# Altium schematic symbol library jlcpcb_2025_04_ferrites_extended_1206.schlib: 308 symbols (part 6 of 6)
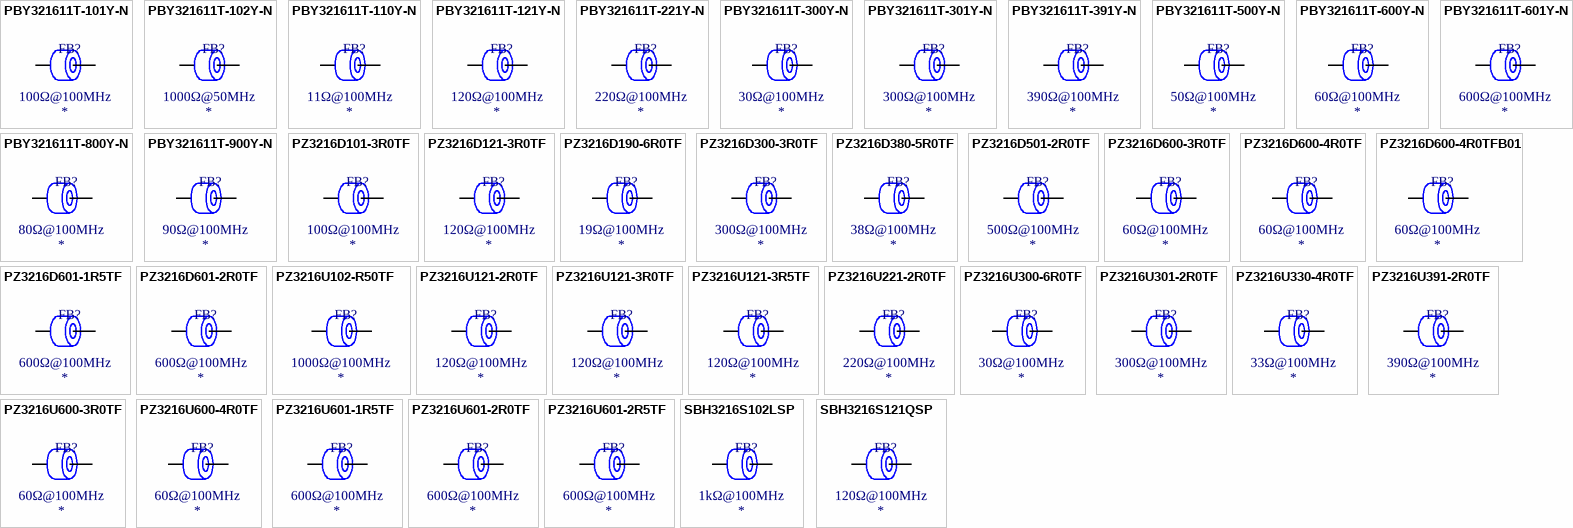
[diagram p12: symbols PBY321611T-101Y-N to SBH3216S121QSP]

## SBH3216S121QSP
designator FB?  Impedance @ Frequency: 120Ω@100MHz
Ferrite, 120Ω@100MHz, ±25%, 30mΩ, 3A, SMD 1206; Manufacturer: Sunltech Tech; Manufacturer Part Number: SBH3216S121QSP; Package Size: 1206; JLCPCB Basic Part: No; JLCPCB Part Number: C908350; Supplier 1: LCSC; Category: Ferrite Beads; Supplier Part Number 1: C908350; Tolerance: ±25%; Rated Current: 3A; DC Resistance: 30mΩ; RoHS: Yes; ComponentLink1Description: Datasheet; ComponentLink1URL: https://wmsc.lcsc.com/wmsc/upload/file/pdf/v2/lcsc/2010301210_Sunltech-Tech-SBH3216S121QSP_C908350.pdf; ComponentLink2Description: JLCPCB Part URL; ComponentLink2URL: https://jlcpcb.com/partdetail/C908350; ComponentLink3Description: LCSC Part URL; ComponentLink3URL: https://lcsc.com/product-detail/Ferrite-Beads_Sunltech-Tech-Sunltech-Tech-SBH3216S121QSP_C908350.html
footprint FB-1206 (1206 (3216M) Ferrite)
pins: 1, 2

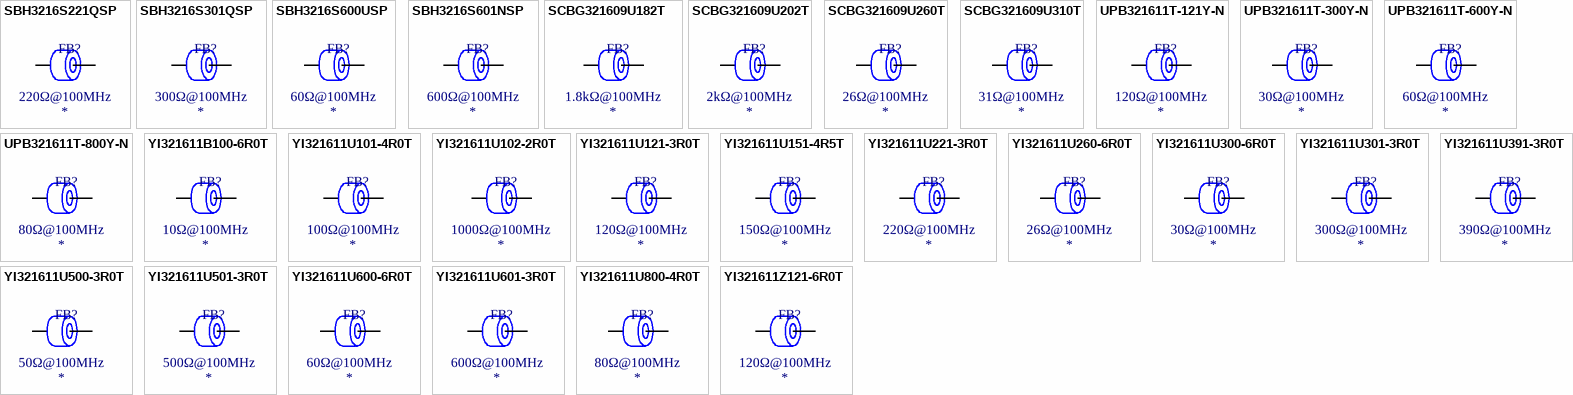
[diagram p7: symbols SBH3216S221QSP to YI321611Z121-6R0T]

## SBH3216S221QSP
designator FB?  Impedance @ Frequency: 220Ω@100MHz
Ferrite, 220Ω@100MHz, ±25%, 40mΩ, 3A, SMD 1206; Manufacturer: Sunltech Tech; Manufacturer Part Number: SBH3216S221QSP; Package Size: 1206; JLCPCB Basic Part: No; JLCPCB Part Number: C908351; Supplier 1: LCSC; Category: Ferrite Beads; Supplier Part Number 1: C908351; Tolerance: ±25%; Rated Current: 3A; DC Resistance: 40mΩ; RoHS: Yes; ComponentLink1Description: Datasheet; ComponentLink1URL: https://wmsc.lcsc.com/wmsc/upload/file/pdf/v2/lcsc/2010301210_Sunltech-Tech-SBH3216S221QSP_C908351.pdf; ComponentLink2Description: JLCPCB Part URL; ComponentLink2URL: https://jlcpcb.com/partdetail/C908351; ComponentLink3Description: LCSC Part URL; ComponentLink3URL: https://lcsc.com/product-detail/Ferrite-Beads_Sunltech-Tech-Sunltech-Tech-SBH3216S221QSP_C908351.html
footprint FB-1206 (1206 (3216M) Ferrite)
pins: 1, 2

## SBH3216S301QSP
designator FB?  Impedance @ Frequency: 300Ω@100MHz
Ferrite, 300Ω@100MHz, ±25%, 40mΩ, 3A, SMD 1206; Manufacturer: Sunltech Tech; Manufacturer Part Number: SBH3216S301QSP; Package Size: 1206; JLCPCB Basic Part: No; JLCPCB Part Number: C908352; Supplier 1: LCSC; Category: Ferrite Beads; Supplier Part Number 1: C908352; Tolerance: ±25%; Rated Current: 3A; DC Resistance: 40mΩ; RoHS: Yes; ComponentLink1Description: Datasheet; ComponentLink1URL: https://wmsc.lcsc.com/wmsc/upload/file/pdf/v2/lcsc/2010301210_Sunltech-Tech-SBH3216S301QSP_C908352.pdf; ComponentLink2Description: JLCPCB Part URL; ComponentLink2URL: https://jlcpcb.com/partdetail/C908352; ComponentLink3Description: LCSC Part URL; ComponentLink3URL: https://lcsc.com/product-detail/Ferrite-Beads_Sunltech-Tech-Sunltech-Tech-SBH3216S301QSP_C908352.html
footprint FB-1206 (1206 (3216M) Ferrite)
pins: 1, 2

## SBH3216S600USP
designator FB?  Impedance @ Frequency: 60Ω@100MHz
Ferrite, 60Ω@100MHz, ±25%, 15mΩ, 5A, SMD 1206; Manufacturer: Sunltech Tech; Manufacturer Part Number: SBH3216S600USP; Package Size: 1206; JLCPCB Basic Part: No; JLCPCB Part Number: C908349; Supplier 1: LCSC; Category: Ferrite Beads; Supplier Part Number 1: C908349; Tolerance: ±25%; Rated Current: 5A; DC Resistance: 15mΩ; RoHS: Yes; ComponentLink1Description: Datasheet; ComponentLink1URL: https://wmsc.lcsc.com/wmsc/upload/file/pdf/v2/lcsc/2011271206_Sunltech-Tech-SBH3216S600USP_C908349.pdf; ComponentLink2Description: JLCPCB Part URL; ComponentLink2URL: https://jlcpcb.com/partdetail/C908349; ComponentLink3Description: LCSC Part URL; ComponentLink3URL: https://lcsc.com/product-detail/Ferrite-Beads_Sunltech-Tech-Sunltech-Tech-SBH3216S600USP_C908349.html
footprint FB-1206 (1206 (3216M) Ferrite)
pins: 1, 2

## SBH3216S601NSP
designator FB?  Impedance @ Frequency: 600Ω@100MHz
Ferrite, 600Ω@100MHz, ±25%, 100mΩ, 2A, SMD 1206; Manufacturer: Sunltech Tech; Manufacturer Part Number: SBH3216S601NSP; Package Size: 1206; JLCPCB Basic Part: No; JLCPCB Part Number: C908353; Supplier 1: LCSC; Category: Ferrite Beads; Supplier Part Number 1: C908353; Tolerance: ±25%; Rated Current: 2A; DC Resistance: 100mΩ; RoHS: Yes; ComponentLink1Description: Datasheet; ComponentLink1URL: https://wmsc.lcsc.com/wmsc/upload/file/pdf/v2/lcsc/2010301210_Sunltech-Tech-SBH3216S601NSP_C908353.pdf; ComponentLink2Description: JLCPCB Part URL; ComponentLink2URL: https://jlcpcb.com/partdetail/C908353; ComponentLink3Description: LCSC Part URL; ComponentLink3URL: https://lcsc.com/product-detail/Ferrite-Beads_Sunltech-Tech-Sunltech-Tech-SBH3216S601NSP_C908353.html
footprint FB-1206 (1206 (3216M) Ferrite)
pins: 1, 2

## SCBG321609U182T
designator FB?  Impedance @ Frequency: 1.8kΩ@100MHz
Ferrite, 1.8kΩ@100MHz, ±25%, SMD 1206; Manufacturer: Yanchuang; Manufacturer Part Number: SCBG321609U182T; Package Size: 1206; JLCPCB Basic Part: No; JLCPCB Part Number: C482682; Supplier 1: LCSC; Category: Ferrite Beads; Supplier Part Number 1: C482682; Tolerance: ±25%; RoHS: Yes; ComponentLink1Description: Datasheet; ComponentLink1URL: https://wmsc.lcsc.com/wmsc/upload/file/pdf/v2/lcsc/2001151003_Yanchuang-SCBG321609U182T_C482682.pdf; ComponentLink2Description: JLCPCB Part URL; ComponentLink2URL: https://jlcpcb.com/partdetail/C482682; ComponentLink3Description: LCSC Part URL; ComponentLink3URL: https://lcsc.com/product-detail/Ferrite-Beads_Yanchuang-Yanchuang-SCBG321609U182T_C482682.html
pins: 1, 2

## SCBG321609U202T
designator FB?  Impedance @ Frequency: 2kΩ@100MHz
Ferrite, 2kΩ@100MHz, ±25%, 1Ω, 50mA, SMD 1206; Manufacturer: Yanchuang; Manufacturer Part Number: SCBG321609U202T; Package Size: 1206; JLCPCB Basic Part: No; JLCPCB Part Number: C480918; Supplier 1: LCSC; Category: Ferrite Beads; Supplier Part Number 1: C480918; Tolerance: ±25%; Rated Current: 50mA; DC Resistance: 1Ω; RoHS: Yes; ComponentLink1Description: Datasheet; ComponentLink1URL: https://wmsc.lcsc.com/wmsc/upload/file/pdf/v2/lcsc/2003181935_Yanchuang-SCBG321609U202T_C480918.pdf; ComponentLink2Description: JLCPCB Part URL; ComponentLink2URL: https://jlcpcb.com/partdetail/C480918; ComponentLink3Description: LCSC Part URL; ComponentLink3URL: https://lcsc.com/product-detail/Ferrite-Beads_Yanchuang-Yanchuang-SCBG321609U202T_C480918.html
footprint FB-1206 (1206 (3216M) Ferrite)
pins: 1, 2

## SCBG321609U260T
designator FB?  Impedance @ Frequency: 26Ω@100MHz
Ferrite, 26Ω@100MHz, ±25%, 100mΩ, 1A, SMD 1206; Manufacturer: Yanchuang; Manufacturer Part Number: SCBG321609U260T; Package Size: 1206; JLCPCB Basic Part: No; JLCPCB Part Number: C480902; Supplier 1: LCSC; Category: Ferrite Beads; Supplier Part Number 1: C480902; Tolerance: ±25%; Rated Current: 1A; DC Resistance: 100mΩ; RoHS: Yes; ComponentLink1Description: Datasheet; ComponentLink1URL: https://wmsc.lcsc.com/wmsc/upload/file/pdf/v2/lcsc/2304140030_Yanchuang-SCBG321609U260T_C480902.pdf; ComponentLink2Description: JLCPCB Part URL; ComponentLink2URL: https://jlcpcb.com/partdetail/C480902; ComponentLink3Description: LCSC Part URL; ComponentLink3URL: https://lcsc.com/product-detail/Ferrite-Beads_Yanchuang-Yanchuang-SCBG321609U260T_C480902.html
footprint FB-1206 (1206 (3216M) Ferrite)
pins: 1, 2

## SCBG321609U310T
designator FB?  Impedance @ Frequency: 31Ω@100MHz
Ferrite, 31Ω@100MHz, ±25%, 100mΩ, 1A, SMD 1206; Manufacturer: Yanchuang; Manufacturer Part Number: SCBG321609U310T; Package Size: 1206; JLCPCB Basic Part: No; JLCPCB Part Number: C480903; Supplier 1: LCSC; Category: Ferrite Beads; Supplier Part Number 1: C480903; Tolerance: ±25%; Rated Current: 1A; DC Resistance: 100mΩ; RoHS: Yes; ComponentLink1Description: Datasheet; ComponentLink1URL: https://wmsc.lcsc.com/wmsc/upload/file/pdf/v2/lcsc/2304140030_Yanchuang-SCBG321609U310T_C480903.pdf; ComponentLink2Description: JLCPCB Part URL; ComponentLink2URL: https://jlcpcb.com/partdetail/C480903; ComponentLink3Description: LCSC Part URL; ComponentLink3URL: https://lcsc.com/product-detail/Ferrite-Beads_Yanchuang-Yanchuang-SCBG321609U310T_C480903.html
footprint FB-1206 (1206 (3216M) Ferrite)
pins: 1, 2

## UPB321611T-121Y-N
designator FB?  Impedance @ Frequency: 120Ω@100MHz
Ferrite, 120Ω@100MHz, ±25%, 0.012Ω, 6000mA, SMD 1206; Manufacturer: Chilisin Elec; Manufacturer Part Number: UPB321611T-121Y-N; Package Size: 1206; JLCPCB Basic Part: No; JLCPCB Part Number: C280703; Supplier 1: LCSC; Category: Ferrite Beads; Supplier Part Number 1: C280703; Tolerance: ±25%; Rated Current: 6000mA; DC Resistance: 0.012Ω; RoHS: Yes; ComponentLink1Description: Datasheet; ComponentLink1URL: https://wmsc.lcsc.com/wmsc/upload/file/pdf/v2/lcsc/2304140030_Chilisin-Elec-UPB321611T-121Y-N_C280703.pdf; ComponentLink2Description: JLCPCB Part URL; ComponentLink2URL: https://jlcpcb.com/partdetail/C280703; ComponentLink3Description: LCSC Part URL; ComponentLink3URL: https://lcsc.com/product-detail/Ferrite-Beads_Chilisin-Elec-Chilisin-Elec-UPB321611T-121Y-N_C280703.html
footprint FB-1206 (1206 (3216M) Ferrite)
pins: 1, 2

## UPB321611T-300Y-N
designator FB?  Impedance @ Frequency: 30Ω@100MHz
Ferrite, 30Ω@100MHz, ±25%, 0.012Ω, 6000mA, SMD 1206; Manufacturer: Chilisin Elec; Manufacturer Part Number: UPB321611T-300Y-N; Package Size: 1206; JLCPCB Basic Part: No; JLCPCB Part Number: C142025; Supplier 1: LCSC; Category: Ferrite Beads; Supplier Part Number 1: C142025; Tolerance: ±25%; Rated Current: 6000mA; DC Resistance: 0.012Ω; RoHS: Yes; ComponentLink1Description: Datasheet; ComponentLink1URL: https://wmsc.lcsc.com/wmsc/upload/file/pdf/v2/lcsc/2304140030_Chilisin-Elec-UPB321611T-300Y-N_C142025.pdf; ComponentLink2Description: JLCPCB Part URL; ComponentLink2URL: https://jlcpcb.com/partdetail/C142025; ComponentLink3Description: LCSC Part URL; ComponentLink3URL: https://lcsc.com/product-detail/Ferrite-Beads_Chilisin-Elec-Chilisin-Elec-UPB321611T-300Y-N_C142025.html
footprint FB-1206 (1206 (3216M) Ferrite)
pins: 1, 2

## UPB321611T-600Y-N
designator FB?  Impedance @ Frequency: 60Ω@100MHz
Ferrite, 60Ω@100MHz, ±25%, 0.012Ω, 6000mA, SMD 1206; Manufacturer: Chilisin Elec; Manufacturer Part Number: UPB321611T-600Y-N; Package Size: 1206; JLCPCB Basic Part: No; JLCPCB Part Number: C365717; Supplier 1: LCSC; Category: Ferrite Beads; Supplier Part Number 1: C365717; Tolerance: ±25%; Rated Current: 6000mA; DC Resistance: 0.012Ω; RoHS: Yes; ComponentLink1Description: Datasheet; ComponentLink1URL: https://wmsc.lcsc.com/wmsc/upload/file/pdf/v2/lcsc/1912111437_Chilisin-Elec-UPB321611T-600Y-N_C365717.pdf; ComponentLink2Description: JLCPCB Part URL; ComponentLink2URL: https://jlcpcb.com/partdetail/C365717; ComponentLink3Description: LCSC Part URL; ComponentLink3URL: https://lcsc.com/product-detail/Ferrite-Beads_Chilisin-Elec-Chilisin-Elec-UPB321611T-600Y-N_C365717.html
footprint FB-1206 (1206 (3216M) Ferrite)
pins: 1, 2

## UPB321611T-800Y-N
designator FB?  Impedance @ Frequency: 80Ω@100MHz
Ferrite, 80Ω@100MHz, ±25%, 0.012Ω, 6000mA, SMD 1206; Manufacturer: Chilisin Elec; Manufacturer Part Number: UPB321611T-800Y-N; Package Size: 1206; JLCPCB Basic Part: No; JLCPCB Part Number: C280704; Supplier 1: LCSC; Category: Ferrite Beads; Supplier Part Number 1: C280704; Tolerance: ±25%; Rated Current: 6000mA; DC Resistance: 0.012Ω; RoHS: Yes; ComponentLink1Description: Datasheet; ComponentLink1URL: https://wmsc.lcsc.com/wmsc/upload/file/pdf/v2/lcsc/1912111437_Chilisin-Elec-UPB321611T-800Y-N_C280704.pdf; ComponentLink2Description: JLCPCB Part URL; ComponentLink2URL: https://jlcpcb.com/partdetail/C280704; ComponentLink3Description: LCSC Part URL; ComponentLink3URL: https://lcsc.com/product-detail/Ferrite-Beads_Chilisin-Elec-Chilisin-Elec-UPB321611T-800Y-N_C280704.html
footprint FB-1206 (1206 (3216M) Ferrite)
pins: 1, 2

## YI321611B100-6R0T
designator FB?  Impedance @ Frequency: 10Ω@100MHz
Ferrite, 10Ω@100MHz, ±25%, 15mΩ, 6A, SMD 1206; Manufacturer: YJYCOIN; Manufacturer Part Number: YI321611B100-6R0T; Package Size: 1206; JLCPCB Basic Part: No; JLCPCB Part Number: C2926394; Supplier 1: LCSC; Category: Ferrite Beads; Supplier Part Number 1: C2926394; Tolerance: ±25%; Rated Current: 6A; DC Resistance: 15mΩ; RoHS: Yes; ComponentLink1Description: Datasheet; ComponentLink1URL: https://wmsc.lcsc.com/wmsc/upload/file/pdf/v2/lcsc/2112021230_YJYCOIN-YI321611B100-6R0T_C2926394.pdf; ComponentLink2Description: JLCPCB Part URL; ComponentLink2URL: https://jlcpcb.com/partdetail/C2926394; ComponentLink3Description: LCSC Part URL; ComponentLink3URL: https://lcsc.com/product-detail/Ferrite-Beads_YJYCOIN-YJYCOIN-YI321611B100-6R0T_C2926394.html
footprint FB-1206 (1206 (3216M) Ferrite)
pins: 1, 2

## YI321611U101-4R0T
designator FB?  Impedance @ Frequency: 100Ω@100MHz
Ferrite, 100Ω@100MHz, ±25%, 30mΩ, 4A, SMD 1206; Manufacturer: YJYCOIN; Manufacturer Part Number: YI321611U101-4R0T; Package Size: 1206; JLCPCB Basic Part: No; JLCPCB Part Number: C3033917; Supplier 1: LCSC; Category: Ferrite Beads; Supplier Part Number 1: C3033917; Tolerance: ±25%; Rated Current: 4A; DC Resistance: 30mΩ; RoHS: Yes; ComponentLink1Description: Datasheet; ComponentLink1URL: https://wmsc.lcsc.com/wmsc/upload/file/pdf/v2/lcsc/2206151201_YJYCOIN-YI321611U101-4R0T_C3033917.pdf; ComponentLink2Description: JLCPCB Part URL; ComponentLink2URL: https://jlcpcb.com/partdetail/C3033917; ComponentLink3Description: LCSC Part URL; ComponentLink3URL: https://lcsc.com/product-detail/Ferrite-Beads_YJYCOIN-YJYCOIN-YI321611U101-4R0T_C3033917.html
footprint FB-1206 (1206 (3216M) Ferrite)
pins: 1, 2

## YI321611U102-2R0T
designator FB?  Impedance @ Frequency: 1000Ω@100MHz
Ferrite, 1000Ω@100MHz, ±25%, 0.2Ω, 2A, SMD 1206; Manufacturer: YJYCOIN; Manufacturer Part Number: YI321611U102-2R0T; Package Size: 1206; JLCPCB Basic Part: No; JLCPCB Part Number: C3033922; Supplier 1: LCSC; Category: Ferrite Beads; Supplier Part Number 1: C3033922; Tolerance: ±25%; Rated Current: 2A; DC Resistance: 0.2Ω; RoHS: Yes; ComponentLink1Description: Datasheet; ComponentLink1URL: https://wmsc.lcsc.com/wmsc/upload/file/pdf/v2/lcsc/2206151201_YJYCOIN-YI321611U102-2R0T_C3033922.pdf; ComponentLink2Description: JLCPCB Part URL; ComponentLink2URL: https://jlcpcb.com/partdetail/C3033922; ComponentLink3Description: LCSC Part URL; ComponentLink3URL: https://lcsc.com/product-detail/Ferrite-Beads_YJYCOIN-YJYCOIN-YI321611U102-2R0T_C3033922.html
footprint FB-1206 (1206 (3216M) Ferrite)
pins: 1, 2

## YI321611U121-3R0T
designator FB?  Impedance @ Frequency: 120Ω@100MHz
Ferrite, 120Ω@100MHz, ±25%, 40mΩ, 3A, SMD 1206; Manufacturer: YJYCOIN; Manufacturer Part Number: YI321611U121-3R0T; Package Size: 1206; JLCPCB Basic Part: No; JLCPCB Part Number: C2858470; Supplier 1: LCSC; Category: Ferrite Beads; Supplier Part Number 1: C2858470; Tolerance: ±25%; Rated Current: 3A; DC Resistance: 40mΩ; RoHS: Yes; ComponentLink1Description: Datasheet; ComponentLink2Description: JLCPCB Part URL; ComponentLink2URL: https://jlcpcb.com/partdetail/C2858470; ComponentLink3Description: LCSC Part URL; ComponentLink3URL: https://lcsc.com/product-detail/Ferrite-Beads_YJYCOIN-YJYCOIN-YI321611U121-3R0T_C2858470.html
footprint FB-1206 (1206 (3216M) Ferrite)
pins: 1, 2

## YI321611U151-4R5T
designator FB?  Impedance @ Frequency: 150Ω@100MHz
Ferrite, 150Ω@100MHz, ±25%, 20mΩ, 4.5A, SMD 1206; Manufacturer: YJYCOIN; Manufacturer Part Number: YI321611U151-4R5T; Package Size: 1206; JLCPCB Basic Part: No; JLCPCB Part Number: C3033918; Supplier 1: LCSC; Category: Ferrite Beads; Supplier Part Number 1: C3033918; Tolerance: ±25%; Rated Current: 4.5A; DC Resistance: 20mΩ; RoHS: Yes; ComponentLink1Description: Datasheet; ComponentLink1URL: https://wmsc.lcsc.com/wmsc/upload/file/pdf/v2/lcsc/2206151201_YJYCOIN-YI321611U151-4R5T_C3033918.pdf; ComponentLink2Description: JLCPCB Part URL; ComponentLink2URL: https://jlcpcb.com/partdetail/C3033918; ComponentLink3Description: LCSC Part URL; ComponentLink3URL: https://lcsc.com/product-detail/Ferrite-Beads_YJYCOIN-YJYCOIN-YI321611U151-4R5T_C3033918.html
footprint FB-1206 (1206 (3216M) Ferrite)
pins: 1, 2

## YI321611U221-3R0T
designator FB?  Impedance @ Frequency: 220Ω@100MHz
Ferrite, 220Ω@100MHz, ±25%, 0.05Ω, 3A, SMD 1206; Manufacturer: YJYCOIN; Manufacturer Part Number: YI321611U221-3R0T; Package Size: 1206; JLCPCB Basic Part: No; JLCPCB Part Number: C3033919; Supplier 1: LCSC; Category: Ferrite Beads; Supplier Part Number 1: C3033919; Tolerance: ±25%; Rated Current: 3A; DC Resistance: 0.05Ω; RoHS: Yes; ComponentLink1Description: Datasheet; ComponentLink1URL: https://wmsc.lcsc.com/wmsc/upload/file/pdf/v2/lcsc/2206151201_YJYCOIN-YI321611U221-3R0T_C3033919.pdf; ComponentLink2Description: JLCPCB Part URL; ComponentLink2URL: https://jlcpcb.com/partdetail/C3033919; ComponentLink3Description: LCSC Part URL; ComponentLink3URL: https://lcsc.com/product-detail/Ferrite-Beads_YJYCOIN-YJYCOIN-YI321611U221-3R0T_C3033919.html
footprint FB-1206 (1206 (3216M) Ferrite)
pins: 1, 2

## YI321611U260-6R0T
designator FB?  Impedance @ Frequency: 26Ω@100MHz
Ferrite, 26Ω@100MHz, ±25%, 10mΩ, 6A, SMD 1206; Manufacturer: YJYCOIN; Manufacturer Part Number: YI321611U260-6R0T; Package Size: 1206; JLCPCB Basic Part: No; JLCPCB Part Number: C2926395; Supplier 1: LCSC; Category: Ferrite Beads; Supplier Part Number 1: C2926395; Tolerance: ±25%; Rated Current: 6A; DC Resistance: 10mΩ; RoHS: Yes; ComponentLink1Description: Datasheet; ComponentLink1URL: https://wmsc.lcsc.com/wmsc/upload/file/pdf/v2/lcsc/2112021230_YJYCOIN-YI321611U260-6R0T_C2926395.pdf; ComponentLink2Description: JLCPCB Part URL; ComponentLink2URL: https://jlcpcb.com/partdetail/C2926395; ComponentLink3Description: LCSC Part URL; ComponentLink3URL: https://lcsc.com/product-detail/Ferrite-Beads_YJYCOIN-YJYCOIN-YI321611U260-6R0T_C2926395.html
footprint FB-1206 (1206 (3216M) Ferrite)
pins: 1, 2

## YI321611U300-6R0T
designator FB?  Impedance @ Frequency: 30Ω@100MHz
Ferrite, 30Ω@100MHz, ±25%, 0.01Ω, 6A, SMD 1206; Manufacturer: YJYCOIN; Manufacturer Part Number: YI321611U300-6R0T; Package Size: 1206; JLCPCB Basic Part: No; JLCPCB Part Number: C2926396; Supplier 1: LCSC; Category: Ferrite Beads; Supplier Part Number 1: C2926396; Tolerance: ±25%; Rated Current: 6A; DC Resistance: 0.01Ω; RoHS: Yes; ComponentLink1Description: Datasheet; ComponentLink1URL: https://wmsc.lcsc.com/wmsc/upload/file/pdf/v2/lcsc/2112021230_YJYCOIN-YI321611U300-6R0T_C2926396.pdf; ComponentLink2Description: JLCPCB Part URL; ComponentLink2URL: https://jlcpcb.com/partdetail/C2926396; ComponentLink3Description: LCSC Part URL; ComponentLink3URL: https://lcsc.com/product-detail/Ferrite-Beads_YJYCOIN-YJYCOIN-YI321611U300-6R0T_C2926396.html
footprint FB-1206 (1206 (3216M) Ferrite)
pins: 1, 2

## YI321611U301-3R0T
designator FB?  Impedance @ Frequency: 300Ω@100MHz
Ferrite, 300Ω@100MHz, ±25%, 50mΩ, 3A, SMD 1206; Manufacturer: YJYCOIN; Manufacturer Part Number: YI321611U301-3R0T; Package Size: 1206; JLCPCB Basic Part: No; JLCPCB Part Number: C2858471; Supplier 1: LCSC; Category: Ferrite Beads; Supplier Part Number 1: C2858471; Tolerance: ±25%; Rated Current: 3A; DC Resistance: 50mΩ; RoHS: Yes; ComponentLink1Description: Datasheet; ComponentLink2Description: JLCPCB Part URL; ComponentLink2URL: https://jlcpcb.com/partdetail/C2858471; ComponentLink3Description: LCSC Part URL; ComponentLink3URL: https://lcsc.com/product-detail/Ferrite-Beads_YJYCOIN-YJYCOIN-YI321611U301-3R0T_C2858471.html
footprint FB-1206 (1206 (3216M) Ferrite)
pins: 1, 2

## YI321611U391-3R0T
designator FB?  Impedance @ Frequency: 390Ω@100MHz
Ferrite, 390Ω@100MHz, ±25%, 50mΩ, 3A, SMD 1206; Manufacturer: YJYCOIN; Manufacturer Part Number: YI321611U391-3R0T; Package Size: 1206; JLCPCB Basic Part: No; JLCPCB Part Number: C3033920; Supplier 1: LCSC; Category: Ferrite Beads; Supplier Part Number 1: C3033920; Tolerance: ±25%; Rated Current: 3A; DC Resistance: 50mΩ; RoHS: Yes; ComponentLink1Description: Datasheet; ComponentLink1URL: https://wmsc.lcsc.com/wmsc/upload/file/pdf/v2/lcsc/2206151201_YJYCOIN-YI321611U391-3R0T_C3033920.pdf; ComponentLink2Description: JLCPCB Part URL; ComponentLink2URL: https://jlcpcb.com/partdetail/C3033920; ComponentLink3Description: LCSC Part URL; ComponentLink3URL: https://lcsc.com/product-detail/Ferrite-Beads_YJYCOIN-YJYCOIN-YI321611U391-3R0T_C3033920.html
footprint FB-1206 (1206 (3216M) Ferrite)
pins: 1, 2

## YI321611U500-3R0T
designator FB?  Impedance @ Frequency: 50Ω@100MHz
Ferrite, 50Ω@100MHz, ±25%, 25mΩ, 3A, SMD 1206; Manufacturer: YJYCOIN; Manufacturer Part Number: YI321611U500-3R0T; Package Size: 1206; JLCPCB Basic Part: No; JLCPCB Part Number: C2858469; Supplier 1: LCSC; Category: Ferrite Beads; Supplier Part Number 1: C2858469; Tolerance: ±25%; Rated Current: 3A; DC Resistance: 25mΩ; RoHS: Yes; ComponentLink1Description: Datasheet; ComponentLink2Description: JLCPCB Part URL; ComponentLink2URL: https://jlcpcb.com/partdetail/C2858469; ComponentLink3Description: LCSC Part URL; ComponentLink3URL: https://lcsc.com/product-detail/Ferrite-Beads_YJYCOIN-YJYCOIN-YI321611U500-3R0T_C2858469.html
footprint FB-1206 (1206 (3216M) Ferrite)
pins: 1, 2

## YI321611U501-3R0T
designator FB?  Impedance @ Frequency: 500Ω@100MHz
Ferrite, 500Ω@100MHz, ±25%, 0.06Ω, 3A, SMD 1206; Manufacturer: YJYCOIN; Manufacturer Part Number: YI321611U501-3R0T; Package Size: 1206; JLCPCB Basic Part: No; JLCPCB Part Number: C3033921; Supplier 1: LCSC; Category: Ferrite Beads; Supplier Part Number 1: C3033921; Tolerance: ±25%; Rated Current: 3A; DC Resistance: 0.06Ω; RoHS: Yes; ComponentLink1Description: Datasheet; ComponentLink1URL: https://wmsc.lcsc.com/wmsc/upload/file/pdf/v2/lcsc/2206151201_YJYCOIN-YI321611U501-3R0T_C3033921.pdf; ComponentLink2Description: JLCPCB Part URL; ComponentLink2URL: https://jlcpcb.com/partdetail/C3033921; ComponentLink3Description: LCSC Part URL; ComponentLink3URL: https://lcsc.com/product-detail/Ferrite-Beads_YJYCOIN-YJYCOIN-YI321611U501-3R0T_C3033921.html
footprint FB-1206 (1206 (3216M) Ferrite)
pins: 1, 2

## YI321611U600-6R0T
designator FB?  Impedance @ Frequency: 60Ω@100MHz
Ferrite, 60Ω@100MHz, ±25%, 0.015Ω, 6A, SMD 1206; Manufacturer: YJYCOIN; Manufacturer Part Number: YI321611U600-6R0T; Package Size: 1206; JLCPCB Basic Part: No; JLCPCB Part Number: C3033915; Supplier 1: LCSC; Category: Ferrite Beads; Supplier Part Number 1: C3033915; Tolerance: ±25%; Rated Current: 6A; DC Resistance: 0.015Ω; RoHS: Yes; ComponentLink1Description: Datasheet; ComponentLink1URL: https://wmsc.lcsc.com/wmsc/upload/file/pdf/v2/lcsc/2206151201_YJYCOIN-YI321611U600-6R0T_C3033915.pdf; ComponentLink2Description: JLCPCB Part URL; ComponentLink2URL: https://jlcpcb.com/partdetail/C3033915; ComponentLink3Description: LCSC Part URL; ComponentLink3URL: https://lcsc.com/product-detail/Ferrite-Beads_YJYCOIN-YJYCOIN-YI321611U600-6R0T_C3033915.html
footprint FB-1206 (1206 (3216M) Ferrite)
pins: 1, 2

## YI321611U601-3R0T
designator FB?  Impedance @ Frequency: 600Ω@100MHz
Ferrite, 600Ω@100MHz, ±25%, 60mΩ, 3A, SMD 1206; Manufacturer: YJYCOIN; Manufacturer Part Number: YI321611U601-3R0T; Package Size: 1206; JLCPCB Basic Part: No; JLCPCB Part Number: C2858472; Supplier 1: LCSC; Category: Ferrite Beads; Supplier Part Number 1: C2858472; Tolerance: ±25%; Rated Current: 3A; DC Resistance: 60mΩ; RoHS: Yes; ComponentLink1Description: Datasheet; ComponentLink1URL: https://wmsc.lcsc.com/wmsc/upload/file/pdf/v2/lcsc/2305221646_YJYCOIN-YI321611U601-3R0T_C2858472.pdf; ComponentLink2Description: JLCPCB Part URL; ComponentLink2URL: https://jlcpcb.com/partdetail/C2858472; ComponentLink3Description: LCSC Part URL; ComponentLink3URL: https://lcsc.com/product-detail/Ferrite-Beads_YJYCOIN-YJYCOIN-YI321611U601-3R0T_C2858472.html
footprint FB-1206 (1206 (3216M) Ferrite)
pins: 1, 2

## YI321611U800-4R0T
designator FB?  Impedance @ Frequency: 80Ω@100MHz
Ferrite, 80Ω@100MHz, ±25%, 30mΩ, 4A, SMD 1206; Manufacturer: YJYCOIN; Manufacturer Part Number: YI321611U800-4R0T; Package Size: 1206; JLCPCB Basic Part: No; JLCPCB Part Number: C3033916; Supplier 1: LCSC; Category: Ferrite Beads; Supplier Part Number 1: C3033916; Tolerance: ±25%; Rated Current: 4A; DC Resistance: 30mΩ; RoHS: Yes; ComponentLink1Description: Datasheet; ComponentLink1URL: https://wmsc.lcsc.com/wmsc/upload/file/pdf/v2/lcsc/2206151201_YJYCOIN-YI321611U800-4R0T_C3033916.pdf; ComponentLink2Description: JLCPCB Part URL; ComponentLink2URL: https://jlcpcb.com/partdetail/C3033916; ComponentLink3Description: LCSC Part URL; ComponentLink3URL: https://lcsc.com/product-detail/Ferrite-Beads_YJYCOIN-YJYCOIN-YI321611U800-4R0T_C3033916.html
footprint FB-1206 (1206 (3216M) Ferrite)
pins: 1, 2

## YI321611Z121-6R0T
designator FB?  Impedance @ Frequency: 120Ω@100MHz
Ferrite, 120Ω@100MHz, ±25%, 20mΩ, 6A, SMD 1206; Manufacturer: YJYCOIN; Manufacturer Part Number: YI321611Z121-6R0T; Package Size: 1206; JLCPCB Basic Part: No; JLCPCB Part Number: C3011219; Supplier 1: LCSC; Category: Ferrite Beads; Supplier Part Number 1: C3011219; Tolerance: ±25%; Rated Current: 6A; DC Resistance: 20mΩ; RoHS: Yes; ComponentLink1Description: Datasheet; ComponentLink1URL: https://wmsc.lcsc.com/wmsc/upload/file/pdf/v2/lcsc/2205091530_YJYCOIN-YI321611Z121-6R0T_C3011219.pdf; ComponentLink2Description: JLCPCB Part URL; ComponentLink2URL: https://jlcpcb.com/partdetail/C3011219; ComponentLink3Description: LCSC Part URL; ComponentLink3URL: https://lcsc.com/product-detail/Ferrite-Beads_YJYCOIN-YJYCOIN-YI321611Z121-6R0T_C3011219.html
footprint FB-1206 (1206 (3216M) Ferrite)
pins: 1, 2